# EAGLE library part ACS724 (library CurrentProbe)
Allegro ACS724 current sensor.
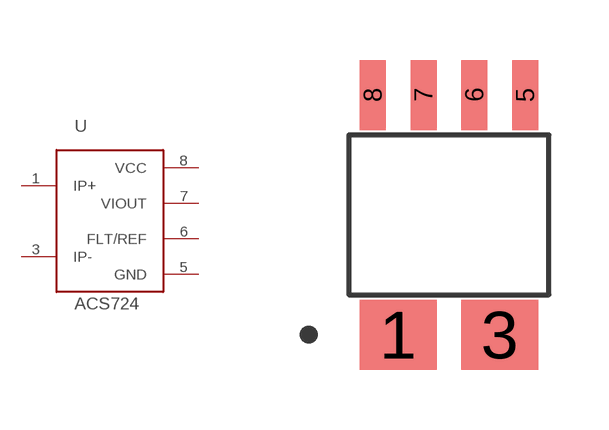
[diagram p1: symbol with the pads of ALLEGRO_SOIC8; footprint ALLEGRO_SOIC8]

Designator prefix U

## ACS724LLCTR-5AB-T (CURRENT: +-5A)  [ALLEGRO_SOIC8]
1  IP+  pas
3  IP-  pas
5  GND  pwr
6  FLT/REF
7  VIOUT  out
8  VCC  pwr

## Footprint ALLEGRO_SOIC8 (pad centres in mm)
Allegro ACS724 current sensor, SOIC8.
smd 1.92 x 1.75: 1 -1.27,-3; 3 1.27,-3
smd 0.65 x 1.75: 5 1.905,3; 6 0.635,3; 7 -0.635,3; 8 -1.905,3